# EAGLE library part HD6305X2 (library oldchips)
8-bit MCU
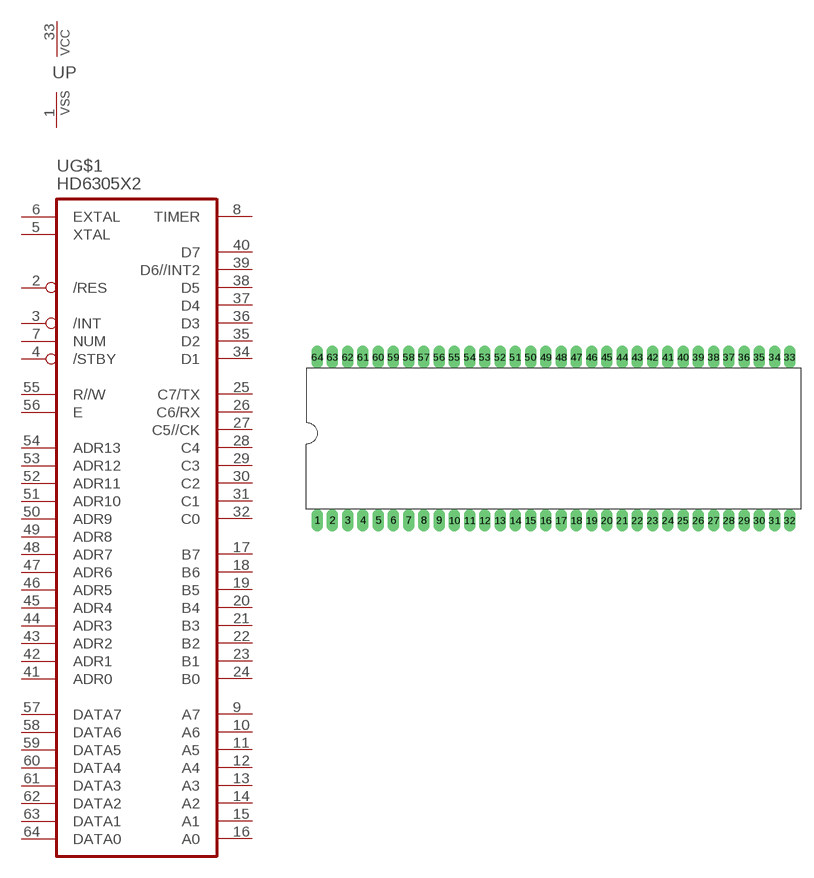
[diagram p11: symbol with the pads of DIL64-0.70; footprint DIL64-0.70]

Designator prefix U; gates G$1=HD6305 P=VCCVSS

## HD6305X2  [DIL64-0.70]
1  P:VSS  pwr
2  G$1:/RES  in
3  G$1:/INT  in
4  G$1:/STBY  in
5  G$1:XTAL  in
6  G$1:EXTAL  in
7  G$1:NUM  in
8  G$1:TIMER  in
9  G$1:A7
10  G$1:A6
11  G$1:A5
12  G$1:A4
13  G$1:A3
14  G$1:A2
15  G$1:A1
16  G$1:A0
17  G$1:B7
18  G$1:B6
19  G$1:B5
20  G$1:B4
21  G$1:B3
22  G$1:B2
23  G$1:B1
24  G$1:B0
25  G$1:C7/TX
26  G$1:C6/RX
27  G$1:C5//CK
28  G$1:C4
29  G$1:C3
30  G$1:C2
31  G$1:C1
32  G$1:C0
33  P:VCC  pwr
34  G$1:D1
35  G$1:D2
36  G$1:D3
37  G$1:D4
38  G$1:D5
39  G$1:D6//INT2
40  G$1:D7
41  G$1:ADR0  out
42  G$1:ADR1  out
43  G$1:ADR2  out
44  G$1:ADR3  out
45  G$1:ADR4  out
46  G$1:ADR5  out
47  G$1:ADR6  out
48  G$1:ADR7  out
49  G$1:ADR8  out
50  G$1:ADR9  out
51  G$1:ADR10  out
52  G$1:ADR11  out
53  G$1:ADR12  out
54  G$1:ADR13  out
55  G$1:R//W  out
56  G$1:E  out
57  G$1:DATA7
58  G$1:DATA6
59  G$1:DATA5
60  G$1:DATA4
61  G$1:DATA3
62  G$1:DATA2
63  G$1:DATA1
64  G$1:DATA0

## Footprint DIL64-0.70 (pad centres in mm)
drill 0.813 long: 1 0,0; 2 1.778,0; 3 3.556,0; 4 5.334,0; 5 7.112,0; 6 8.89,0; 7 10.668,0; 8 12.446,0; 9 14.224,0; 10 16.002,0; 11 17.78,0; 12 19.558,0; 13 21.336,0; 14 23.114,0; 15 24.892,0; 16 26.67,0; 17 28.448,0; 18 30.226,0; 19 32.004,0; 20 33.782,0; 21 35.56,0; 22 37.338,0; 23 39.116,0; 24 40.894,0; 25 42.672,0; 26 44.45,0; 27 46.228,0; 28 48.006,0; 29 49.784,0; 30 51.562,0; 31 53.34,0; 32 55.118,0; 33 55.118,19.05; 34 53.34,19.05; 35 51.562,19.05; 36 49.784,19.05; 37 48.006,19.05; 38 46.228,19.05; 39 44.45,19.05; 40 42.672,19.05; 41 40.894,19.05; 42 39.116,19.05; 43 37.338,19.05; 44 35.56,19.05; 45 33.782,19.05; 46 32.004,19.05; 47 30.226,19.05; 48 28.448,19.05; 49 26.67,19.05; 50 24.892,19.05; 51 23.114,19.05; 52 21.336,19.05; 53 19.558,19.05; 54 17.78,19.05; 55 16.002,19.05; 56 14.224,19.05; 57 12.446,19.05; 58 10.668,19.05; 59 8.89,19.05; 60 7.112,19.05; 61 5.334,19.05; 62 3.556,19.05; 63 1.778,19.05; 64 0,19.05